# Altium footprint library MAX16915.PcbLib: 3 footprints
Each footprint in its own frame and in the unit in brackets; x right, y up, seen from the top. Pads: shape width x height; smd on the part's side, far side on the other; paste and mask are expansions set on the pad; w line width, h text height; cw(c..) or ccw(c..) is an arc to the next point about the centre after c.
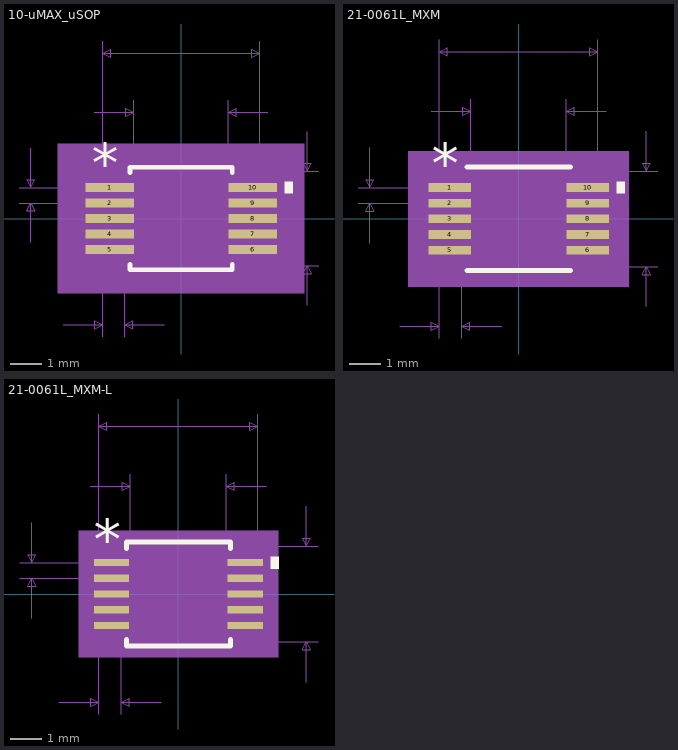
[diagram p0: the footprints below, top view; thin cyan lines are the x and y axes]

## 10-uMAX_uSOP [mil]
pads (10):
  rect 61.5x11 smd paste+0 mask+0: 1(-90.75,39.37) 2(-90.75,19.68) 3(-90.75,0) 4(-90.75,-19.68) 5(-90.75,-39.37) 6(90.75,-39.37) 7(90.75,-19.68) 8(90.75,0) 9(90.75,19.68) 10(90.75,39.37)
Top Overlay:
  region: 131.5,46.87 141.5,46.87 141.5,31.87 131.5,31.87
  lines w6: -65,-57.97 -65,-65 65,-65 65,-57.97 ; -65,57.97 -65,65 65,65 65,57.97
  text "*" at -113.25,45.37 h50
Mechanical 5:
  region: 156.5,-95 -156.5,-95 -156.5,95 156.5,95
Mechanical 7:
  lines w1: -205.75,19.68 -90.75,19.68 ; -205.75,39.37 -90.75,39.37 ; -190.75,-30.32 -190.75,19.68 ; -190.75,89.37 -190.75,39.37 ; -149.5,-135 -99.5,-135 ; -110,135 -60,135 ; -99.5,-150 -99.5,0 -99.5,225 ; -71.5,-150 -71.5,0 ; -60,0 -60,150 ; -21.5,-135 -71.5,-135 ; 0,-60 175,-60 ; 0,60 175,60 ; 60,0 60,150 ; 99.5,0 99.5,225 ; 110,135 60,135 ; 160,-110 160,-60 ; 160,110 160,60 ; -190.75,19.68 -185.75,9.69 -195.75,9.69 -190.75,19.68 ; -190.75,39.37 -185.75,49.37 -195.75,49.37 -190.75,39.37 ; -99.5,-135 -109.5,-140 -109.5,-130 -99.5,-135 ; -99.5,210 -89.5,205 -89.5,215 -99.5,210 ; -99.5,210 99.5,210 ; -71.5,-135 -61.5,-140 -61.5,-130 -71.5,-135 ; -60,135 -70,130 -70,140 -60,135 ; 60,135 70,130 70,140 60,135 ; 99.5,210 89.5,205 89.5,215 99.5,210 ; 160,-60 165,-70 155,-70 160,-60 ; 160,60 165,70 155,70 160,60
  text "0.028in/0.711mm" at -179.25,-180 h25
  text "0.02in/0.5mm" at -360.75,17.03 h25
  text "0.12in/3.048mm" at 180,-12.5 h25
  text "0.199in/5.055mm" at -93.75,230 h25
  text "0.12in/3.048mm" at -87.5,155 h25
  text "Alt 2 Padstyle: OX90Y60D30P" at -337.5,-560 h50
  text "Alt 1 Padstyle: OX60Y90D30P" at -337.5,-500 h50
  text "Pin One Padstyle: RX61p5Y11D0T" at -375,-320 h50
  text "Default Padstyle: RX61p5Y11D0T" at -375,-260 h50
Mechanical 13:
  lines w0: -12,60 ccw(c0,60) 12,60
  lines w1: -99.5,-44.87 -60,-44.87 -60,-33.87 -99.5,-33.87 -99.5,-44.87 ; -99.5,-25.18 -60,-25.18 -60,-14.19 -99.5,-14.19 -99.5,-25.18 ; -99.5,-5.5 -60,-5.5 -60,5.5 -99.5,5.5 -99.5,-5.5 ; -99.5,14.19 -60,14.19 -60,25.18 -99.5,25.18 -99.5,14.19 ; -99.5,33.87 -60,33.87 -60,44.87 -99.5,44.87 -99.5,33.87 ; -60,-60 -60,60 60,60 60,-60 -60,-60 ; 60,-44.87 99.5,-44.87 99.5,-33.87 60,-33.87 60,-44.87 ; 60,-25.18 99.5,-25.18 99.5,-14.19 60,-14.19 60,-25.18 ; 60,-5.5 99.5,-5.5 99.5,5.5 60,5.5 60,-5.5 ; 60,14.19 99.5,14.19 99.5,25.18 60,25.18 60,14.19 ; 60,33.87 99.5,33.87 99.5,44.87 60,44.87 60,33.87
  text "*" at -57.5,7 h50
Mechanical 15:
  region: -80,-64.87 -141.5,-64.87 -141.5,64.87 -80,64.87 -80,80 80,80 80,64.87 141.5,64.87 141.5,-64.87 80,-64.87 80,-80 -80,-80
  lines w6: -141.5,-64.87 -80,-64.87 -80,-80 80,-80 80,-64.87 141.5,-64.87 141.5,64.87 80,64.87 80,80 -80,80 -80,64.87 -141.5,64.87 -141.5,-64.87
3D body: height 10, standoff 0, extent 0,0 10,10

## 21-0061L_MXM [mil]
pads (10):
  rect 53.5x11 smd paste+0 mask+0: 1(-86.75,39.37) 2(-86.75,19.68) 3(-86.75,0) 4(-86.75,-19.68) 5(-86.75,-39.37) 6(86.75,-39.37) 7(86.75,-19.68) 8(86.75,0) 9(86.75,19.68) 10(86.75,39.37)
Top Overlay:
  region: 123.5,46.87 133.5,46.87 133.5,31.87 123.5,31.87
  lines w6: -65,-65 65,-65 ; -65,65 65,65
  text "*" at -109.25,45.37 h50
Mechanical 5:
  region: 138.5,-85 -138.5,-85 -138.5,85 138.5,85
Mechanical 7:
  lines w1: -201.75,19.68 -86.75,19.68 ; -201.75,39.37 -86.75,39.37 ; -186.75,-30.32 -186.75,19.68 ; -186.75,89.37 -186.75,39.37 ; -149.5,-135 -99.5,-135 ; -110,135 -60,135 ; -99.5,-150 -99.5,0 -99.5,225 ; -71.5,-150 -71.5,0 ; -60,0 -60,150 ; -21.5,-135 -71.5,-135 ; 0,-60 175,-60 ; 0,60 175,60 ; 60,0 60,150 ; 99.5,0 99.5,225 ; 110,135 60,135 ; 160,-110 160,-60 ; 160,110 160,60 ; -186.75,19.68 -191.75,9.69 -181.75,9.69 -186.75,19.68 ; -186.75,39.37 -191.75,49.37 -181.75,49.37 -186.75,39.37 ; -99.5,-135 -109.5,-130 -109.5,-140 -99.5,-135 ; -99.5,210 99.5,210 ; -99.5,210 -89.5,215 -89.5,205 -99.5,210 ; -71.5,-135 -61.5,-130 -61.5,-140 -71.5,-135 ; -60,135 -70,140 -70,130 -60,135 ; 60,135 70,140 70,130 60,135 ; 99.5,210 89.5,215 89.5,205 99.5,210 ; 160,-60 155,-70 165,-70 160,-60 ; 160,60 155,70 165,70 160,60
  text "Default Padstyle: RX53p5Y11D0T" at -375,-260 h50
  text "Pin One Padstyle: RX53p5Y11D0T" at -375,-320 h50
  text "Alt 1 Padstyle: OX60Y90D30P" at -337.5,-500 h50
  text "Alt 2 Padstyle: OX90Y60D30P" at -337.5,-560 h50
  text "0.12in/3.048mm" at -87.5,155 h25
  text "0.199in/5.055mm" at -93.75,230 h25
  text "0.12in/3.048mm" at 180,-12.5 h25
  text "0.02in/0.5mm" at -356.75,17.03 h25
  text "0.028in/0.711mm" at -179.25,-180 h25
Mechanical 13:
  lines w0: -12,60 ccw(c0,60) 12,60
  lines w1: -99.5,-44.87 -99.5,-33.87 -60,-33.87 -60,-44.87 -99.5,-44.87 ; -99.5,-25.18 -99.5,-14.19 -60,-14.19 -60,-25.18 -99.5,-25.18 ; -99.5,-5.5 -99.5,5.5 -60,5.5 -60,-5.5 -99.5,-5.5 ; -99.5,14.19 -99.5,25.18 -60,25.18 -60,14.19 -99.5,14.19 ; -99.5,33.87 -99.5,44.87 -60,44.87 -60,33.87 -99.5,33.87 ; -60,-60 60,-60 60,60 -60,60 -60,-60 ; 60,-44.87 60,-33.87 99.5,-33.87 99.5,-44.87 60,-44.87 ; 60,-25.18 60,-14.19 99.5,-14.19 99.5,-25.18 60,-25.18 ; 60,-5.5 60,5.5 99.5,5.5 99.5,-5.5 60,-5.5 ; 60,14.19 60,25.18 99.5,25.18 99.5,14.19 60,14.19 ; 60,33.87 60,44.87 99.5,44.87 99.5,33.87 60,33.87
  text "*" at -57.5,7 h50
Mechanical 15:
  region: -70,-54.87 -123.5,-54.87 -123.5,54.87 -70,54.87 -70,70 70,70 70,54.87 123.5,54.87 123.5,-54.87 70,-54.87 70,-70 -70,-70
  lines w6: -123.5,-54.87 -123.5,54.87 -70,54.87 -70,70 70,70 70,54.87 123.5,54.87 123.5,-54.87 70,-54.87 70,-70 -70,-70 -70,-54.87 -123.5,-54.87
3D body: height 10, standoff 0, extent 0,0 10,10

## 21-0061L_MXM-L [mil]
pads (10):
  rect 44x9 smd paste+0 mask+0: 1(-83.5,39.37) 2(-83.5,19.68) 3(-83.5,0) 4(-83.5,-19.68) 5(-83.5,-39.37) 6(83.5,-39.37) 7(83.5,-19.68) 8(83.5,0) 9(83.5,19.68) 10(83.5,39.37)
Top Overlay:
  region: 115.5,46.87 125.5,46.87 125.5,31.87 115.5,31.87
  lines w6: -65,-56.97 -65,-65 65,-65 65,-56.97 ; -65,56.97 -65,65 65,65 65,56.97
  text "*" at -106,43.37 h50
Mechanical 5:
  region: 124.5,-79 -124.5,-79 -124.5,79 124.5,79
Mechanical 7:
  lines w1: -198.5,19.68 -83.5,19.68 ; -198.5,39.37 -83.5,39.37 ; -183.5,-30.32 -183.5,19.68 ; -183.5,89.37 -183.5,39.37 ; -149.5,-135 -99.5,-135 ; -110,135 -60,135 ; -99.5,-150 -99.5,0 -99.5,225 ; -71.5,-150 -71.5,0 ; -60,0 -60,150 ; -21.5,-135 -71.5,-135 ; 0,-60 175,-60 ; 0,60 175,60 ; 60,0 60,150 ; 99.5,0 99.5,225 ; 110,135 60,135 ; 160,-110 160,-60 ; 160,110 160,60 ; -183.5,19.68 -178.5,9.69 -188.5,9.69 -183.5,19.68 ; -183.5,39.37 -178.5,49.37 -188.5,49.37 -183.5,39.37 ; -99.5,-135 -109.5,-140 -109.5,-130 -99.5,-135 ; -99.5,210 -89.5,205 -89.5,215 -99.5,210 ; -99.5,210 99.5,210 ; -71.5,-135 -61.5,-140 -61.5,-130 -71.5,-135 ; -60,135 -70,130 -70,140 -60,135 ; 60,135 70,130 70,140 60,135 ; 99.5,210 89.5,205 89.5,215 99.5,210 ; 160,-60 165,-70 155,-70 160,-60 ; 160,60 165,70 155,70 160,60
  text "0.028in/0.711mm" at -179.25,-180 h25
  text "0.02in/0.5mm" at -353.5,17.03 h25
  text "0.12in/3.048mm" at 180,-12.5 h25
  text "0.199in/5.055mm" at -93.75,230 h25
  text "0.12in/3.048mm" at -87.5,155 h25
  text "Alt 2 Padstyle: OX90Y60D30P" at -337.5,-560 h50
  text "Alt 1 Padstyle: OX60Y90D30P" at -337.5,-500 h50
  text "Pin One Padstyle: RX44Y9D0T" at -337.5,-320 h50
  text "Default Padstyle: RX44Y9D0T" at -337.5,-260 h50
Mechanical 13:
  lines w0: -12,60 ccw(c0,60) 12,60
  lines w1: -99.5,-44.87 -60,-44.87 -60,-33.87 -99.5,-33.87 -99.5,-44.87 ; -99.5,-25.18 -60,-25.18 -60,-14.19 -99.5,-14.19 -99.5,-25.18 ; -99.5,-5.5 -60,-5.5 -60,5.5 -99.5,5.5 -99.5,-5.5 ; -99.5,14.19 -60,14.19 -60,25.18 -99.5,25.18 -99.5,14.19 ; -99.5,33.87 -60,33.87 -60,44.87 -99.5,44.87 -99.5,33.87 ; -60,-60 -60,60 60,60 60,-60 -60,-60 ; 60,-44.87 99.5,-44.87 99.5,-33.87 60,-33.87 60,-44.87 ; 60,-25.18 99.5,-25.18 99.5,-14.19 60,-14.19 60,-25.18 ; 60,-5.5 99.5,-5.5 99.5,5.5 60,5.5 60,-5.5 ; 60,14.19 99.5,14.19 99.5,25.18 60,25.18 60,14.19 ; 60,33.87 99.5,33.87 99.5,44.87 60,44.87 60,33.87
  text "*" at -57.5,7 h50
Mechanical 15:
  region: -64,-47.87 -109.5,-47.87 -109.5,47.87 -64,47.87 -64,64 64,64 64,47.87 109.5,47.87 109.5,-47.87 64,-47.87 64,-64 -64,-64
  lines w6: -109.5,-47.87 -64,-47.87 -64,-64 64,-64 64,-47.87 109.5,-47.87 109.5,47.87 64,47.87 64,64 -64,64 -64,47.87 -109.5,47.87 -109.5,-47.87
3D body: height 10, standoff 0, extent 0,0 10,10